# Altium schematic symbol library SCH - ANNOTATION - PROJECT DATE.SCHLIB: 1 symbol
Pins are listed as number, name and electrical type; pins without a type are passive.

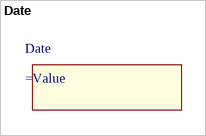
[diagram p0: symbol Date]

## Date
designator Date  (no BOM)